# Altium integrated library WE-CBF_rev15a.intlib: 169 symbols (part 1 of 2)
Pins are listed as number, name and electrical type; pins without a type are passive.

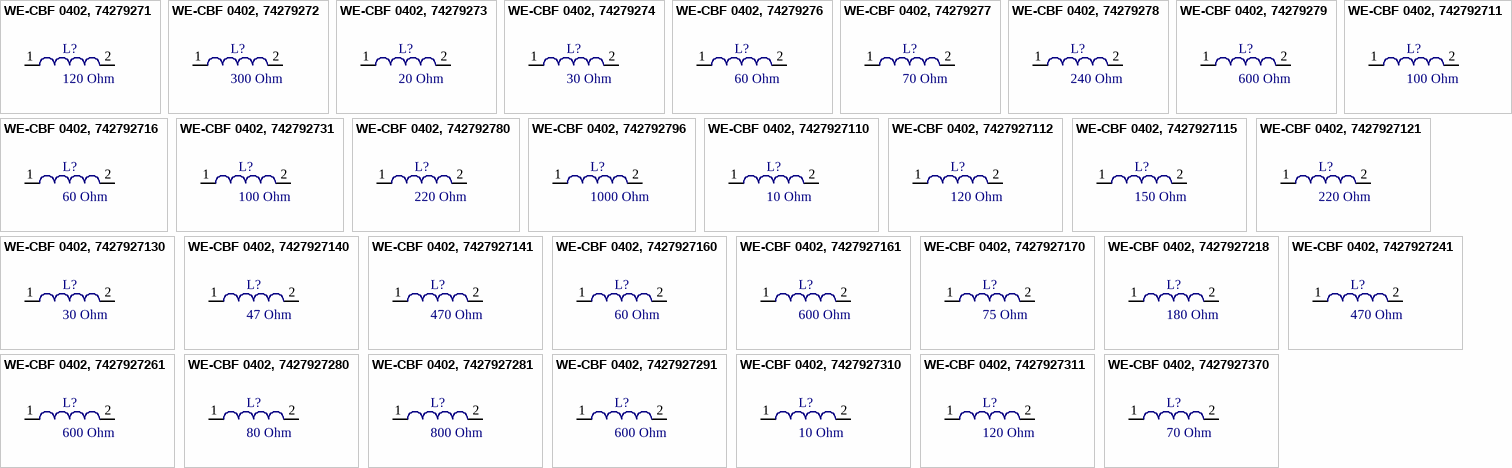
[diagram p0: symbols WE-CBF 0402, 74279271 to WE-CBF 0402, 7427927370]

## WE-CBF 0402, 74279271
designator L?, comment 120 Ohm
SMD EMI Suppression Ferrite Beads WE-CBF, Z= 120 Ohm; partNo: 74279271; Manufacturer: Würth Elektronik eiSos GmbH; Impedance: 120 Ohm; ComponentLink1Description: Manufacturer; ComponentLink1URL: http://www.we-online.de; Created by: Christin Zierenner; Created Date: May 2009; ComponentLink2Description: Datasheet; ComponentLink2URL: http://www.we-online.de/katalog/media/pdf/74279271.pdf
footprint SMD 0402 (Chip Inductor, 2-Leads, Body 1,0x0,5mm)
pins: 1, 2

## WE-CBF 0402, 74279272
designator L?, comment 300 Ohm
SMD EMI Suppression Ferrite Beads WE-CBF, Z= 300 Ohm; partNo: 74279272; Manufacturer: Würth Elektronik eiSos GmbH; Impedance: 300 Ohm; ComponentLink1Description: Manufacturer; ComponentLink1URL: http://www.we-online.de; Created by: Christin Zierenner; Created Date: May 2009; ComponentLink2Description: Datasheet; ComponentLink2URL: http://www.we-online.de/katalog/media/pdf/74279272.pdf
footprint SMD 0402 (Chip Inductor, 2-Leads, Body 1,0x0,5mm)
pins: 1, 2

## WE-CBF 0402, 74279273
designator L?, comment 20 Ohm
SMD EMI Suppression Ferrite Beads WE-CBF, Z= 20 Ohm; partNo: 74279273; Manufacturer: Würth Elektronik eiSos GmbH; Impedance: 20 Ohm; ComponentLink1Description: Manufacturer; ComponentLink1URL: http://www.we-online.de; Created by: Christin Zierenner; Created Date: May 2009; ComponentLink2Description: Datasheet; ComponentLink2URL: http://www.we-online.de/katalog/media/pdf/74279273.pdf
footprint SMD 0402 (Chip Inductor, 2-Leads, Body 1,0x0,5mm)
pins: 1, 2

## WE-CBF 0402, 74279274
designator L?, comment 30 Ohm
SMD EMI Suppression Ferrite Beads WE-CBF, Z= 30 Ohm; partNo: 74279274; Manufacturer: Würth Elektronik eiSos GmbH; Impedance: 30 Ohm; ComponentLink1Description: Manufacturer; ComponentLink1URL: http://www.we-online.de; Created by: Christin Zierenner; Created Date: May 2009; ComponentLink2Description: Datasheet; ComponentLink2URL: http://www.we-online.de/katalog/media/pdf/74279274.pdf
footprint SMD 0402 (Chip Inductor, 2-Leads, Body 1,0x0,5mm)
pins: 1, 2

## WE-CBF 0402, 74279276
designator L?, comment 60 Ohm
SMD EMI Suppression Ferrite Beads WE-CBF, Z= 60 Ohm; partNo: 74279276; Manufacturer: Würth Elektronik eiSos GmbH; Impedance: 60 Ohm; ComponentLink1Description: Manufacturer; ComponentLink1URL: http://www.we-online.de; Created by: Christin Zierenner; Created Date: May 2009; ComponentLink2Description: Datasheet; ComponentLink2URL: http://www.we-online.de/katalog/media/pdf/74279276.pdf
footprint SMD 0402 (Chip Inductor, 2-Leads, Body 1,0x0,5mm)
pins: 1, 2

## WE-CBF 0402, 74279277
designator L?, comment 70 Ohm
SMD EMI Suppression Ferrite Beads WE-CBF, Z= 70 Ohm; partNo: 74279277; Manufacturer: Würth Elektronik eiSos GmbH; Impedance: 70 Ohm; ComponentLink1Description: Manufacturer; ComponentLink1URL: http://www.we-online.de; Created by: Christin Zierenner; Created Date: May 2009; ComponentLink2Description: Datasheet; ComponentLink2URL: http://www.we-online.de/katalog/media/pdf/74279277.pdf
footprint SMD 0402 (Chip Inductor, 2-Leads, Body 1,0x0,5mm)
pins: 1, 2

## WE-CBF 0402, 74279278
designator L?, comment 240 Ohm
SMD EMI Suppression Ferrite Beads WE-CBF, Z= 240 Ohm; partNo: 74279278; Manufacturer: Würth Elektronik eiSos GmbH; Impedance: 240 Ohm; ComponentLink1Description: Manufacturer; ComponentLink1URL: http://www.we-online.de; Created by: Christin Zierenner; Created Date: May 2009; ComponentLink2Description: Datasheet; ComponentLink2URL: http://www.we-online.de/katalog/media/pdf/74279278.pdf
footprint SMD 0402 (Chip Inductor, 2-Leads, Body 1,0x0,5mm)
pins: 1, 2

## WE-CBF 0402, 74279279
designator L?, comment 600 Ohm
SMD EMI Suppression Ferrite Beads WE-CBF, Z= 600 Ohm; partNo: 74279279; Manufacturer: Würth Elektronik eiSos GmbH; Impedance: 600 Ohm; ComponentLink1Description: Manufacturer; ComponentLink1URL: http://www.we-online.de; Created by: Christin Zierenner; Created Date: May 2009; ComponentLink2Description: Datasheet; ComponentLink2URL: http://www.we-online.de/katalog/media/pdf/74279279.pdf
footprint SMD 0402 (Chip Inductor, 2-Leads, Body 1,0x0,5mm)
pins: 1, 2

## WE-CBF 0402, 742792711
designator L?, comment 100 Ohm
SMD EMI Suppression Ferrite Beads WE-CBF, Z= 100 Ohm; partNo: 742792711; Manufacturer: Würth Elektronik eiSos GmbH; Impedance: 100 Ohm; ComponentLink1Description: Manufacturer; ComponentLink1URL: http://www.we-online.de; Created by: Christin Zierenner; Created Date: June 2010; ComponentLink2Description: Datasheet; ComponentLink2URL: http://www.we-online.de/katalog/media/pdf/742792711.pdf
footprint SMD 0402 (Chip Inductor, 2-Leads, Body 1,0x0,5mm)
pins: 1, 2

## WE-CBF 0402, 742792716
designator L?, comment 60 Ohm
SMD EMI Suppression Ferrite Beads WE-CBF, Z= 60 Ohm; partNo: 742792716; Manufacturer: Würth Elektronik eiSos GmbH; Impedance: 60 Ohm; ComponentLink1Description: Manufacturer; ComponentLink1URL: http://www.we-online.de; Created by: Christin Zierenner; Created Date: June 2010; ComponentLink2Description: Datasheet; ComponentLink2URL: http://www.we-online.de/katalog/media/pdf/742792716.pdf
footprint SMD 0402 (Chip Inductor, 2-Leads, Body 1,0x0,5mm)
pins: 1, 2

## WE-CBF 0402, 742792731
designator L?, comment 100 Ohm
SMD EMI Suppression Ferrite Beads WE-CBF, Z= 100 Ohm; partNo: 742792731; Manufacturer: Würth Elektronik eiSos GmbH; Impedance: 100 Ohm; ComponentLink1Description: Manufacturer; ComponentLink1URL: http://www.we-online.de; Created by: Christin Zierenner; Created Date: June 2010; ComponentLink2Description: Datasheet; ComponentLink2URL: http://www.we-online.de/katalog/media/pdf/742792731.pdf
footprint SMD 0402 (Chip Inductor, 2-Leads, Body 1,0x0,5mm)
pins: 1, 2

## WE-CBF 0402, 742792780
designator L?, comment 220 Ohm
SMD EMI Suppression Ferrite Beads WE-CBF, Z= 220 Ohm; partNo: 742792780; Manufacturer: Würth Elektronik eiSos GmbH; Impedance: 220 Ohm; ComponentLink1Description: Manufacturer; ComponentLink1URL: http://www.we-online.de; Created by: Christin Zierenner; Created Date: May 2009; ComponentLink2Description: Datasheet; ComponentLink2URL: http://www.we-online.de/katalog/media/pdf/742792780.pdf
footprint SMD 0402 (Chip Inductor, 2-Leads, Body 1,0x0,5mm)
pins: 1, 2

## WE-CBF 0402, 742792796
designator L?, comment 1000 Ohm
SMD EMI Suppression Ferrite Beads WE-CBF, Z= 1000 Ohm; partNo: 742792796; Manufacturer: Würth Elektronik eiSos GmbH; Impedance: 1000 Ohm; ComponentLink1Description: Manufacturer; ComponentLink1URL: http://www.we-online.de; Created by: Christin Zierenner; Created Date: May 2009; ComponentLink2Description: Datasheet; ComponentLink2URL: http://www.we-online.de/katalog/media/pdf/742792796.pdf
footprint SMD 0402 (Chip Inductor, 2-Leads, Body 1,0x0,5mm)
pins: 1, 2

## WE-CBF 0402, 7427927110
designator L?, comment 10 Ohm
SMD EMI Suppression Ferrite Beads WE-CBF, Z= 10 Ohm; partNo: 7427927110; Manufacturer: Würth Elektronik eiSos GmbH; Impedance: 10 Ohm; ComponentLink1Description: Manufacturer; ComponentLink1URL: http://www.we-online.de; Created by: Christin Zierenner; Created Date: June 2010; ComponentLink2Description: Datasheet; ComponentLink2URL: http://www.we-online.de/katalog/media/pdf/7427927110.pdf
footprint SMD 0402 (Chip Inductor, 2-Leads, Body 1,0x0,5mm)
pins: 1, 2

## WE-CBF 0402, 7427927112
designator L?, comment 120 Ohm
SMD EMI Suppression Ferrite Beads WE-CBF, Z= 120 Ohm; partNo: 7427927112; Manufacturer: Würth Elektronik eiSos GmbH; Impedance: 120 Ohm; ComponentLink1Description: Manufacturer; ComponentLink1URL: http://www.we-online.de; Created by: Christin Zierenner; Created Date: June 2010; ComponentLink2Description: Datasheet; ComponentLink2URL: http://www.we-online.de/katalog/media/pdf/7427927112.pdf
footprint SMD 0402 (Chip Inductor, 2-Leads, Body 1,0x0,5mm)
pins: 1, 2

## WE-CBF 0402, 7427927115
designator L?, comment 150 Ohm
SMD EMI Suppression Ferrite Beads WE-CBF, Z= 150 Ohm; partNo: 7427927115; Manufacturer: Würth Elektronik eiSos GmbH; Impedance: 150 Ohm; ComponentLink1Description: Manufacturer; ComponentLink1URL: http://www.we-online.de; Created by: Christin Zierenner; Created Date: June 2010; ComponentLink2Description: Datasheet; ComponentLink2URL: http://www.we-online.de/katalog/media/pdf/7427927115.pdf
footprint SMD 0402 (Chip Inductor, 2-Leads, Body 1,0x0,5mm)
pins: 1, 2

## WE-CBF 0402, 7427927121
designator L?, comment 220 Ohm
SMD EMI Suppression Ferrite Beads WE-CBF, Z= 220 Ohm; partNo: 7427927121; Manufacturer: Würth Elektronik eiSos GmbH; Impedance: 220 Ohm; ComponentLink1Description: Manufacturer; ComponentLink1URL: http://www.we-online.de; Created by: Christin Zierenner; Created Date: June 2010; ComponentLink2Description: Datasheet; ComponentLink2URL: http://www.we-online.de/katalog/media/pdf/7427927121.pdf
footprint SMD 0402 (Chip Inductor, 2-Leads, Body 1,0x0,5mm)
pins: 1, 2

## WE-CBF 0402, 7427927130
designator L?, comment 30 Ohm
SMD EMI Suppression Ferrite Beads WE-CBF, Z= 30 Ohm; partNo: 7427927130; Manufacturer: Würth Elektronik eiSos GmbH; Impedance: 30 Ohm; ComponentLink1Description: Manufacturer; ComponentLink1URL: http://www.we-online.de; Created by: Christin Zierenner; Created Date: June 2010; ComponentLink2Description: Datasheet; ComponentLink2URL: http://www.we-online.de/katalog/media/pdf/7427927130.pdf
footprint SMD 0402 (Chip Inductor, 2-Leads, Body 1,0x0,5mm)
pins: 1, 2

## WE-CBF 0402, 7427927140
designator L?, comment 47 Ohm
SMD EMI Suppression Ferrite Beads WE-CBF, Z= 47 Ohm; partNo: 7427927140; Manufacturer: Würth Elektronik eiSos GmbH; Impedance: 47 Ohm; ComponentLink1Description: Manufacturer; ComponentLink1URL: http://www.we-online.de; Created by: Christin Zierenner; Created Date: June 2010; ComponentLink2Description: Datasheet; ComponentLink2URL: http://www.we-online.de/katalog/media/pdf/7427927140.pdf
footprint SMD 0402 (Chip Inductor, 2-Leads, Body 1,0x0,5mm)
pins: 1, 2

## WE-CBF 0402, 7427927141
designator L?, comment 470 Ohm
SMD EMI Suppression Ferrite Beads WE-CBF, Z= 470 Ohm; partNo: 7427927141; Manufacturer: Würth Elektronik eiSos GmbH; Impedance: 470 Ohm; ComponentLink1Description: Manufacturer; ComponentLink1URL: http://www.we-online.de; Created by: Christin Zierenner; Created Date: June 2010; ComponentLink2Description: Datasheet; ComponentLink2URL: http://www.we-online.de/katalog/media/pdf/7427927141.pdf
footprint SMD 0402 (Chip Inductor, 2-Leads, Body 1,0x0,5mm)
pins: 1, 2

## WE-CBF 0402, 7427927160
designator L?, comment 60 Ohm
SMD EMI Suppression Ferrite Beads WE-CBF, Z= 60 Ohm; partNo: 7427927160; Manufacturer: Würth Elektronik eiSos GmbH; Impedance: 60 Ohm; ComponentLink1Description: Manufacturer; ComponentLink1URL: http://www.we-online.de; Created by: Christin Zierenner; Created Date: June 2010; ComponentLink2Description: Datasheet; ComponentLink2URL: http://www.we-online.de/katalog/media/pdf/7427927160.pdf
footprint SMD 0402 (Chip Inductor, 2-Leads, Body 1,0x0,5mm)
pins: 1, 2

## WE-CBF 0402, 7427927161
designator L?, comment 600 Ohm
SMD EMI Suppression Ferrite Beads WE-CBF, Z= 600 Ohm; partNo: 7427927161; Manufacturer: Würth Elektronik eiSos GmbH; Impedance: 600 Ohm; ComponentLink1Description: Manufacturer; ComponentLink1URL: http://www.we-online.de; Created by: Christin Zierenner; Created Date: June 2010; ComponentLink2Description: Datasheet; ComponentLink2URL: http://www.we-online.de/katalog/media/pdf/7427927161.pdf
footprint SMD 0402 (Chip Inductor, 2-Leads, Body 1,0x0,5mm)
pins: 1, 2

## WE-CBF 0402, 7427927170
designator L?, comment 75 Ohm
SMD EMI Suppression Ferrite Beads WE-CBF, Z= 75 Ohm; partNo: 7427927170; Manufacturer: Würth Elektronik eiSos GmbH; Impedance: 75 Ohm; ComponentLink1Description: Manufacturer; ComponentLink1URL: http://www.we-online.de; Created by: Christin Zierenner; Created Date: June 2010; ComponentLink2Description: Datasheet; ComponentLink2URL: http://www.we-online.de/katalog/media/pdf/7427927170.pdf
footprint SMD 0402 (Chip Inductor, 2-Leads, Body 1,0x0,5mm)
pins: 1, 2

## WE-CBF 0402, 7427927218
designator L?, comment 180 Ohm
SMD EMI Suppression Ferrite Beads WE-CBF, Z= 180 Ohm; partNo: 7427927218; Manufacturer: Würth Elektronik eiSos GmbH; Impedance: 180 Ohm; ComponentLink1Description: Manufacturer; ComponentLink1URL: http://www.we-online.de; Created by: Christin Zierenner; Created Date: June 2010; ComponentLink2Description: Datasheet; ComponentLink2URL: http://www.we-online.de/katalog/media/pdf/7427927218.pdf
footprint SMD 0402 (Chip Inductor, 2-Leads, Body 1,0x0,5mm)
pins: 1, 2

## WE-CBF 0402, 7427927241
designator L?, comment 470 Ohm
SMD EMI Suppression Ferrite Beads WE-CBF, Z= 470 Ohm; partNo: 7427927241; Manufacturer: Würth Elektronik eiSos GmbH; Impedance: 470 Ohm; ComponentLink1Description: Manufacturer; ComponentLink1URL: http://www.we-online.de; Created by: Christin Zierenner; Created Date: June 2010; ComponentLink2Description: Datasheet; ComponentLink2URL: http://www.we-online.de/katalog/media/pdf/7427927241.pdf
footprint SMD 0402 (Chip Inductor, 2-Leads, Body 1,0x0,5mm)
pins: 1, 2

## WE-CBF 0402, 7427927261
designator L?, comment 600 Ohm
SMD EMI Suppression Ferrite Beads WE-CBF, Z= 600 Ohm; partNo: 7427927261; Manufacturer: Würth Elektronik eiSos GmbH; Impedance: 600 Ohm; ComponentLink1Description: Manufacturer; ComponentLink1URL: http://www.we-online.de; Created by: Christin Zierenner; Created Date: June 2010; ComponentLink2Description: Datasheet; ComponentLink2URL: http://www.we-online.de/katalog/media/pdf/7427927261.pdf
footprint SMD 0402 (Chip Inductor, 2-Leads, Body 1,0x0,5mm)
pins: 1, 2

## WE-CBF 0402, 7427927280
designator L?, comment 80 Ohm
SMD EMI Suppression Ferrite Beads WE-CBF, Z= 80 Ohm; partNo: 7427927280; Manufacturer: Würth Elektronik eiSos GmbH; Impedance: 80 Ohm; ComponentLink1Description: Manufacturer; ComponentLink1URL: http://www.we-online.de; Created by: Christin Zierenner; Created Date: June 2010; ComponentLink2Description: Datasheet; ComponentLink2URL: http://www.we-online.de/katalog/media/pdf/7427927280.pdf
footprint SMD 0402 (Chip Inductor, 2-Leads, Body 1,0x0,5mm)
pins: 1, 2

## WE-CBF 0402, 7427927281
designator L?, comment 800 Ohm
SMD EMI Suppression Ferrite Beads WE-CBF, Z= 800 Ohm; partNo: 7427927281; Manufacturer: Würth Elektronik eiSos GmbH; Impedance: 800 Ohm; ComponentLink1Description: Manufacturer; ComponentLink1URL: http://www.we-online.de; Created by: Christin Zierenner; Created Date: June 2010; ComponentLink2Description: Datasheet; ComponentLink2URL: http://www.we-online.de/katalog/media/pdf/7427927281.pdf
footprint SMD 0402 (Chip Inductor, 2-Leads, Body 1,0x0,5mm)
pins: 1, 2

## WE-CBF 0402, 7427927291
designator L?, comment 600 Ohm
SMD EMI Suppression Ferrite Beads WE-CBF, Z= 600 Ohm; partNo: 7427927291; Manufacturer: Würth Elektronik eiSos GmbH; Impedance: 600 Ohm; ComponentLink1Description: Manufacturer; ComponentLink1URL: http://www.we-online.de; Created by: Christin Zierenner; Created Date: June 2010; ComponentLink2Description: Datasheet; ComponentLink2URL: http://www.we-online.de/katalog/media/pdf/7427927291.pdf
footprint SMD 0402 (Chip Inductor, 2-Leads, Body 1,0x0,5mm)
pins: 1, 2

## WE-CBF 0402, 7427927310
designator L?, comment 10 Ohm
SMD EMI Suppression Ferrite Beads WE-CBF, Z= 10 Ohm; partNo: 7427927310; Manufacturer: Würth Elektronik eiSos GmbH; Impedance: 10 Ohm; ComponentLink1Description: Manufacturer; ComponentLink1URL: http://www.we-online.de; Created by: Christin Zierenner; Created Date: June 2010; ComponentLink2Description: Datasheet; ComponentLink2URL: http://www.we-online.de/katalog/media/pdf/7427927310.pdf
footprint SMD 0402 (Chip Inductor, 2-Leads, Body 1,0x0,5mm)
pins: 1, 2

## WE-CBF 0402, 7427927311
designator L?, comment 120 Ohm
SMD EMI Suppression Ferrite Beads WE-CBF, Z= 120 Ohm; partNo: 7427927311; Manufacturer: Würth Elektronik eiSos GmbH; Impedance: 120 Ohm; ComponentLink1Description: Manufacturer; ComponentLink1URL: http://www.we-online.de; Created by: Christin Zierenner; Created Date: June 2010; ComponentLink2Description: Datasheet; ComponentLink2URL: http://www.we-online.de/katalog/media/pdf/74279273120.pdf
footprint SMD 0402 (Chip Inductor, 2-Leads, Body 1,0x0,5mm)
pins: 1, 2

## WE-CBF 0402, 7427927370
designator L?, comment 70 Ohm
SMD EMI Suppression Ferrite Beads WE-CBF, Z= 70 Ohm; partNo: 7427927370; Manufacturer: Würth Elektronik eiSos GmbH; Impedance: 70 Ohm; ComponentLink1Description: Manufacturer; ComponentLink1URL: http://www.we-online.de; Created by: Christin Zierenner; Created Date: June 2010; ComponentLink2Description: Datasheet; ComponentLink2URL: http://www.we-online.de/katalog/media/pdf/7427927370.pdf
footprint SMD 0402 (Chip Inductor, 2-Leads, Body 1,0x0,5mm)
pins: 1, 2


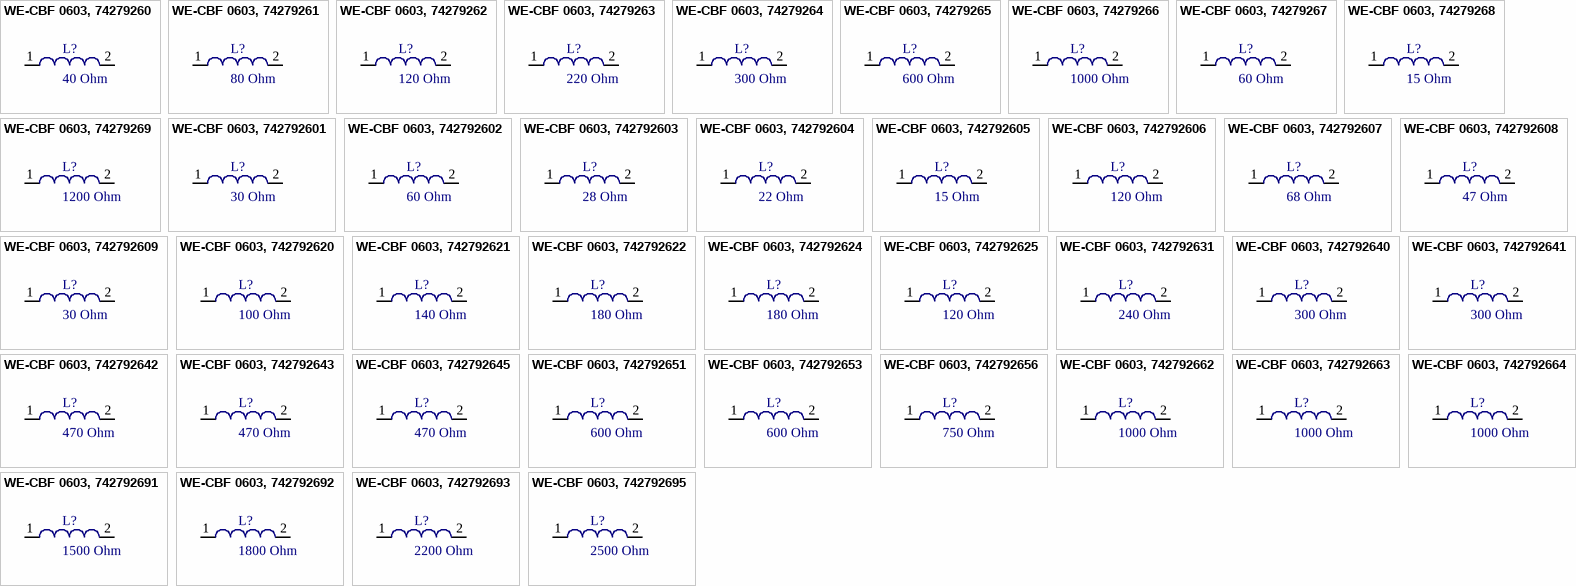
[diagram p1: symbols WE-CBF 0603, 74279260 to WE-CBF 0603, 742792695]

## WE-CBF 0603, 74279260
designator L?, comment 40 Ohm
SMD EMI Suppression Ferrite Beads WE-CBF, Z= 40 Ohm; partNo: 74279260; Manufacturer: Würth Elektronik eiSos GmbH; ComponentLink1Description: Manufacturer; ComponentLink1URL: http://www.we-online.de; Created by: Christin Zierenner; Created Date: May 2009; Impedance: 40 Ohm; ComponentLink2Description: Datasheet; ComponentLink2URL: http://www.we-online.de/katalog/media/pdf/74279260.pdf
footprint SMD 0603 (Chip Inductor, 2-Leads, Body 1,6x0,8mm)
pins: 1, 2

## WE-CBF 0603, 74279261
designator L?, comment 80 Ohm
SMD EMI Suppression Ferrite Beads WE-CBF, Z= 80 Ohm; partNo: 74279261; Manufacturer: Würth Elektronik eiSos GmbH; Impedance: 80 Ohm; ComponentLink1Description: Manufacturer; ComponentLink1URL: http://www.we-online.de; Created by: Christin Zierenner; Created Date: May 2009; ComponentLink2Description: Datasheet; ComponentLink2URL: http://www.we-online.de/katalog/media/pdf/74279261.pdf
footprint SMD 0603 (Chip Inductor, 2-Leads, Body 1,6x0,8mm)
pins: 1, 2

## WE-CBF 0603, 74279262
designator L?, comment 120 Ohm
SMD EMI Suppression Ferrite Beads WE-CBF, Z= 120 Ohm; partNo: 74279262; Manufacturer: Würth Elektronik eiSos GmbH; Impedance: 120 Ohm; ComponentLink1Description: Manufacturer; ComponentLink1URL: http://www.we-online.de; Created by: Christin Zierenner; Created Date: May 2009; ComponentLink2Description: Datasheet; ComponentLink2URL: http://www.we-online.de/katalog/media/pdf/74279262.pdf
footprint SMD 0603 (Chip Inductor, 2-Leads, Body 1,6x0,8mm)
pins: 1, 2

## WE-CBF 0603, 74279263
designator L?, comment 220 Ohm
SMD EMI Suppression Ferrite Beads WE-CBF, Z= 220 Ohm; partNo: 74279263; Manufacturer: Würth Elektronik eiSos GmbH; Impedance: 220 Ohm; ComponentLink1Description: Manufacturer; ComponentLink1URL: http://www.we-online.de; Created by: Christin Zierenner; Created Date: May 2009; ComponentLink2Description: Datasheet; ComponentLink2URL: http://www.we-online.de/katalog/media/pdf/74279263.pdf
footprint SMD 0603 (Chip Inductor, 2-Leads, Body 1,6x0,8mm)
pins: 1, 2

## WE-CBF 0603, 74279264
designator L?, comment 300 Ohm
SMD EMI Suppression Ferrite Beads WE-CBF, Z= 300 Ohm; partNo: 74279264; Manufacturer: Würth Elektronik eiSos GmbH; Impedance: 300 Ohm; ComponentLink1Description: Manufacturer; ComponentLink1URL: http://www.we-online.de; Created by: Christin Zierenner; Created Date: May 2009; ComponentLink2Description: Datasheet; ComponentLink2URL: http://www.we-online.de/katalog/media/pdf/74279264.pdf
footprint SMD 0603 (Chip Inductor, 2-Leads, Body 1,6x0,8mm)
pins: 1, 2

## WE-CBF 0603, 74279265
designator L?, comment 600 Ohm
SMD EMI Suppression Ferrite Beads WE-CBF, Z= 600 Ohm; partNo: 74279265; Manufacturer: Würth Elektronik eiSos GmbH; Impedance: 600 Ohm; ComponentLink1Description: Manufacturer; ComponentLink1URL: http://www.we-online.de; Created by: Christin Zierenner; Created Date: May 2009; ComponentLink2Description: Datasheet; ComponentLink2URL: http://www.we-online.de/katalog/media/pdf/74279265.pdf
footprint SMD 0603 (Chip Inductor, 2-Leads, Body 1,6x0,8mm)
pins: 1, 2

## WE-CBF 0603, 74279266
designator L?, comment 1000 Ohm
SMD EMI Suppression Ferrite Beads WE-CBF, Z= 1000 Ohm; partNo: 74279266; Manufacturer: Würth Elektronik eiSos GmbH; Impedance: 1000 Ohm; ComponentLink1Description: Manufacturer; ComponentLink1URL: http://www.we-online.de; Created by: Christin Zierenner; Created Date: May 2009; ComponentLink2Description: Datasheet; ComponentLink2URL: http://www.we-online.de/katalog/media/pdf/74279266.pdf
footprint SMD 0603 (Chip Inductor, 2-Leads, Body 1,6x0,8mm)
pins: 1, 2

## WE-CBF 0603, 74279267
designator L?, comment 60 Ohm
SMD EMI Suppression Ferrite Beads WE-CBF, Z= 60 Ohm; partNo: 74279267; Manufacturer: Würth Elektronik eiSos GmbH; Impedance: 60 Ohm; ComponentLink1Description: Manufacturer; ComponentLink1URL: http://www.we-online.de; Created by: Christin Zierenner; Created Date: May 2009; ComponentLink2Description: Datasheet; ComponentLink2URL: http://www.we-online.de/katalog/media/pdf/74279267.pdf
footprint SMD 0603 (Chip Inductor, 2-Leads, Body 1,6x0,8mm)
pins: 1, 2

## WE-CBF 0603, 74279268
designator L?, comment 15 Ohm
SMD EMI Suppression Ferrite Beads WE-CBF, Z= 15 Ohm; partNo: 74279268; Manufacturer: Würth Elektronik eiSos GmbH; Impedance: 15 Ohm; ComponentLink1Description: Manufacturer; ComponentLink1URL: http://www.we-online.de; Created by: Christin Zierenner; Created Date: May 2009; ComponentLink2Description: Datasheet; ComponentLink2URL: http://www.we-online.de/katalog/media/pdf/74279268.pdf
footprint SMD 0603 (Chip Inductor, 2-Leads, Body 1,6x0,8mm)
pins: 1, 2

## WE-CBF 0603, 74279269
designator L?, comment 1200 Ohm
SMD EMI Suppression Ferrite Beads WE-CBF, Z= 1200 Ohm; partNo: 74279269; Manufacturer: Würth Elektronik eiSos GmbH; Impedance: 1200 Ohm; ComponentLink1Description: Manufacturer; ComponentLink1URL: http://www.we-online.de; Created by: Christin Zierenner; Created Date: May 2009; ComponentLink2Description: Datasheet; ComponentLink2URL: http://www.we-online.de/katalog/media/pdf/74279269.pdf
footprint SMD 0603 (Chip Inductor, 2-Leads, Body 1,6x0,8mm)
pins: 1, 2

## WE-CBF 0603, 742792601
designator L?, comment 30 Ohm
SMD EMI Suppression Ferrite Beads WE-CBF, Z= 30 Ohm; partNo: 742792601; Manufacturer: Würth Elektronik eiSos GmbH; Impedance: 30 Ohm; ComponentLink1Description: Manufacturer; ComponentLink1URL: http://www.we-online.de; Created by: Christin Zierenner; Created Date: May 2009; ComponentLink2Description: Datasheet; ComponentLink2URL: http://www.we-online.de/katalog/media/pdf/742792601.pdf
footprint SMD 0603 (Chip Inductor, 2-Leads, Body 1,6x0,8mm)
pins: 1, 2

## WE-CBF 0603, 742792602
designator L?, comment 60 Ohm
SMD EMI Suppression Ferrite Beads WE-CBF, Z= 60 Ohm; partNo: 742792602; Manufacturer: Würth Elektronik eiSos GmbH; Impedance: 60 Ohm; ComponentLink1Description: Manufacturer; ComponentLink1URL: http://www.we-online.de; Created by: Christin Zierenner; Created Date: May 2009; ComponentLink2Description: Datasheet; ComponentLink2URL: http://www.we-online.de/katalog/media/pdf/742792602.pdf
footprint SMD 0603 (Chip Inductor, 2-Leads, Body 1,6x0,8mm)
pins: 1, 2

## WE-CBF 0603, 742792603
designator L?, comment 28 Ohm
SMD EMI Suppression Ferrite Beads WE-CBF, Z= 28 Ohm; partNo: 742792603; Manufacturer: Würth Elektronik eiSos GmbH; Impedance: 28 Ohm; ComponentLink1Description: Manufacturer; ComponentLink1URL: http://www.we-online.de; Created by: Christin Zierenner; Created Date: May 2009; ComponentLink2Description: Datasheet; ComponentLink2URL: http://www.we-online.de/katalog/media/pdf/742792603.pdf
footprint SMD 0603 (Chip Inductor, 2-Leads, Body 1,6x0,8mm)
pins: 1, 2

## WE-CBF 0603, 742792604
designator L?, comment 22 Ohm
SMD EMI Suppression Ferrite Beads WE-CBF, Z= 22 Ohm; partNo: 742792604; Manufacturer: Würth Elektronik eiSos GmbH; Impedance: 22 Ohm; ComponentLink1Description: Manufacturer; ComponentLink1URL: http://www.we-online.de; Created by: Christin Zierenner; Created Date: May 2009; ComponentLink2Description: Datasheet; ComponentLink2URL: http://www.we-online.de/katalog/media/pdf/742792604.pdf
footprint SMD 0603 (Chip Inductor, 2-Leads, Body 1,6x0,8mm)
pins: 1, 2

## WE-CBF 0603, 742792605
designator L?, comment 15 Ohm
SMD EMI Suppression Ferrite Beads WE-CBF, Z= 33 Ohm; partNo: 742792605; Manufacturer: Würth Elektronik eiSos GmbH; Impedance: 15 Ohm; ComponentLink1Description: Manufacturer; ComponentLink1URL: http://www.we-online.de; Created by: Christin Zierenner; Created Date: May 2009; ComponentLink2Description: Datasheet; ComponentLink2URL: http://www.we-online.de/katalog/media/pdf/742792605.pdf
footprint SMD 0603 (Chip Inductor, 2-Leads, Body 1,6x0,8mm)
pins: 1, 2

## WE-CBF 0603, 742792606
designator L?, comment 120 Ohm
SMD EMI Suppression Ferrite Beads WE-CBF, Z= 120 Ohm; partNo: 742792606; Manufacturer: Würth Elektronik eiSos GmbH; Impedance: 120 Ohm; ComponentLink1Description: Manufacturer; ComponentLink1URL: http://www.we-online.de; Created by: Christin Zierenner; Created Date: May 2009; ComponentLink2Description: Datasheet; ComponentLink2URL: http://www.we-online.de/katalog/media/pdf/742792606.pdf
footprint SMD 0603 (Chip Inductor, 2-Leads, Body 1,6x0,8mm)
pins: 1, 2

## WE-CBF 0603, 742792607
designator L?, comment 68 Ohm
SMD EMI Suppression Ferrite Beads WE-CBF, Z= 68 Ohm; partNo: 742792607; Manufacturer: Würth Elektronik eiSos GmbH; Impedance: 68 Ohm; ComponentLink1Description: Manufacturer; ComponentLink1URL: http://www.we-online.de; Created by: Christin Zierenner; Created Date: May 2009; ComponentLink2Description: Datasheet; ComponentLink2URL: http://www.we-online.de/katalog/media/pdf/742792607.pdf
footprint SMD 0603 (Chip Inductor, 2-Leads, Body 1,6x0,8mm, IPC Medium Density)
pins: 1, 2

## WE-CBF 0603, 742792608
designator L?, comment 47 Ohm
SMD EMI Suppression Ferrite Beads WE-CBF, Z= 47 Ohm; partNo: 742792608; Manufacturer: Würth Elektronik eiSos GmbH; Impedance: 47 Ohm; ComponentLink1Description: Manufacturer; ComponentLink1URL: http://www.we-online.de; Created by: Christin Zierenner; Created Date: May 2009; ComponentLink2Description: Datasheet; ComponentLink2URL: http://www.we-online.de/katalog/media/pdf/742792608.pdf
footprint SMD 0603 (Chip Inductor, 2-Leads, Body 1,6x0,8mm, IPC Medium Density)
pins: 1, 2

## WE-CBF 0603, 742792609
designator L?, comment 30 Ohm
SMD EMI Suppression Ferrite Beads WE-CBF, Z= 30 Ohm; partNo: 742792609; Manufacturer: Würth Elektronik eiSos GmbH; Impedance: 30 Ohm; ComponentLink1Description: Manufacturer; ComponentLink1URL: http://www.we-online.de; Created by: Christin Zierenner; Created Date: May 2009; ComponentLink2Description: Datasheet; ComponentLink2URL: http://www.we-online.de/katalog/media/pdf/742792609.pdf
footprint SMD 0603 (Chip Inductor, 2-Leads, Body 1,6x0,8mm, IPC Medium Density)
pins: 1, 2

## WE-CBF 0603, 742792620
designator L?, comment 100 Ohm
SMD EMI Suppression Ferrite Beads WE-CBF, Z= 100 Ohm; partNo: 742792620; Manufacturer: Würth Elektronik eiSos GmbH; Impedance: 100 Ohm; ComponentLink1Description: Manufacturer; ComponentLink1URL: http://www.we-online.de; Created by: Christin Zierenner; Created Date: May 2009; ComponentLink2Description: Datasheet; ComponentLink2URL: http://www.we-online.de/katalog/media/pdf/742792620.pdf
footprint SMD 0603 (Chip Inductor, 2-Leads, Body 1,6x0,8mm)
pins: 1, 2

## WE-CBF 0603, 742792621
designator L?, comment 140 Ohm
SMD EMI Suppression Ferrite Beads WE-CBF, Z= 140 Ohm; partNo: 742792621; Manufacturer: Würth Elektronik eiSos GmbH; Impedance: 140 Ohm; ComponentLink1Description: Manufacturer; ComponentLink1URL: http://www.we-online.de; Created by: Christin Zierenner; Created Date: May 2009; ComponentLink2Description: Datasheet; ComponentLink2URL: http://www.we-online.de/katalog/media/pdf/742792621.pdf
footprint SMD 0603 (Chip Inductor, 2-Leads, Body 1,6x0,8mm)
pins: 1, 2

## WE-CBF 0603, 742792622
designator L?, comment 180 Ohm
SMD EMI Suppression Ferrite Beads WE-CBF, Z= 180 Ohm; partNo: 742792622; Manufacturer: Würth Elektronik eiSos GmbH; Impedance: 180 Ohm; ComponentLink1Description: Manufacturer; ComponentLink1URL: http://www.we-online.de; Created by: Christin Zierenner; Created Date: May 2009; ComponentLink2Description: Datasheet; ComponentLink2URL: http://www.we-online.de/katalog/media/pdf/74279222.pdf
footprint SMD 0603 (Chip Inductor, 2-Leads, Body 1,6x0,8mm)
pins: 1, 2

## WE-CBF 0603, 742792624
designator L?, comment 180 Ohm
SMD EMI Suppression Ferrite Beads WE-CBF, Z= 180 Ohm; partNo: 742792624; Manufacturer: Würth Elektronik eiSos GmbH; Impedance: 180 Ohm; ComponentLink1Description: Manufacturer; ComponentLink1URL: http://www.we-online.de; Created by: Christin Zierenner; Created Date: May 2009; ComponentLink2Description: Datasheet; ComponentLink2URL: http://www.we-online.de/katalog/media/pdf/742792624.pdf
footprint SMD 0603 (Chip Inductor, 2-Leads, Body 1,6x0,8mm)
pins: 1, 2

## WE-CBF 0603, 742792625
designator L?, comment 120 Ohm
SMD EMI Suppression Ferrite Beads WE-CBF, Z= 120 Ohm; partNo: 742792625; Manufacturer: Würth Elektronik eiSos GmbH; ComponentLink1Description: Manufacturer; ComponentLink1URL: http://www.we-online.de; Created by: Christin Zierenner; Created Date: June 2010; Impedance: 120 Ohm; ComponentLink2Description: Datasheet; ComponentLink2URL: http://www.we-online.de/katalog/media/pdf/742792625.pdf
footprint SMD 0603 (Chip Inductor, 2-Leads, Body 1,6x0,8mm)
pins: 1, 2

## WE-CBF 0603, 742792631
designator L?, comment 240 Ohm
SMD EMI Suppression Ferrite Beads WE-CBF, Z= 240 Ohm; partNo: 742792631; Manufacturer: Würth Elektronik eiSos GmbH; Impedance: 240 Ohm; ComponentLink1Description: Manufacturer; ComponentLink1URL: http://www.we-online.de; Created by: Christin Zierenner; Created Date: May 2009; ComponentLink2Description: Datasheet; ComponentLink2URL: http://www.we-online.de/katalog/media/pdf/742792631.pdf
footprint SMD 0603 (Chip Inductor, 2-Leads, Body 1,6x0,8mm)
pins: 1, 2

## WE-CBF 0603, 742792640
designator L?, comment 300 Ohm
SMD EMI Suppression Ferrite Beads WE-CBF, Z= 300 Ohm; partNo: 742792640; Manufacturer: Würth Elektronik eiSos GmbH; Impedance: 300 Ohm; ComponentLink1Description: Manufacturer; ComponentLink1URL: http://www.we-online.de; Created by: Christin Zierenner; Created Date: May 2009; ComponentLink2Description: Datasheet; ComponentLink2URL: http://www.we-online.de/katalog/media/pdf/742792640.pdf
footprint SMD 0603 (Chip Inductor, 2-Leads, Body 1,6x0,8mm)
pins: 1, 2

## WE-CBF 0603, 742792641
designator L?, comment 300 Ohm
SMD EMI Suppression Ferrite Beads WE-CBF, Z= 300 Ohm; partNo: 742792641; Manufacturer: Würth Elektronik eiSos GmbH; Impedance: 300 Ohm; ComponentLink1Description: Manufacturer; ComponentLink1URL: http://www.we-online.de; Created by: Christin Zierenner; Created Date: May 2009; ComponentLink2Description: Datasheet; ComponentLink2URL: http://www.we-online.de/katalog/media/pdf/742792641.pdf
footprint SMD 0603 (Chip Inductor, 2-Leads, Body 1,6x0,8mm)
pins: 1, 2

## WE-CBF 0603, 742792642
designator L?, comment 470 Ohm
SMD EMI Suppression Ferrite Beads WE-CBF, Z= 470 Ohm; partNo: 742792642; Manufacturer: Würth Elektronik eiSos GmbH; Impedance: 470 Ohm; ComponentLink1Description: Manufacturer; ComponentLink1URL: http://www.we-online.de; Created by: Christin Zierenner; Created Date: May 2009; ComponentLink2Description: Datasheet; ComponentLink2URL: http://www.we-online.de/katalog/media/pdf/742792642.pdf
footprint SMD 0603 (Chip Inductor, 2-Leads, Body 1,6x0,8mm)
pins: 1, 2

## WE-CBF 0603, 742792643
designator L?, comment 470 Ohm
SMD EMI Suppression Ferrite Beads WE-CBF, Z= 470 Ohm; partNo: 742792643; Manufacturer: Würth Elektronik eiSos GmbH; Impedance: 470 Ohm; ComponentLink1Description: Manufacturer; ComponentLink1URL: http://www.we-online.de; Created by: Christin Zierenner; Created Date: May 2009; ComponentLink2Description: Datasheet; ComponentLink2URL: http://www.we-online.de/katalog/media/pdf/742792643.pdf
footprint SMD 0603 (Chip Inductor, 2-Leads, Body 1,6x0,8mm)
pins: 1, 2

## WE-CBF 0603, 742792645
designator L?, comment 470 Ohm
SMD EMI Suppression Ferrite Beads WE-CBF, Z= 470 Ohm; partNo: 742792645; Manufacturer: Würth Elektronik eiSos GmbH; ComponentLink1Description: Manufacturer; ComponentLink1URL: http://www.we-online.de; Created by: Christin Zierenner; Created Date: June 2010; Impedance: 470 Ohm; ComponentLink2Description: Datasheet; ComponentLink2URL: http://www.we-online.de/katalog/media/pdf/742792645.pdf
footprint SMD 0603 (Chip Inductor, 2-Leads, Body 1,6x0,8mm)
pins: 1, 2

## WE-CBF 0603, 742792651
designator L?, comment 600 Ohm
SMD EMI Suppression Ferrite Beads WE-CBF, Z= 600 Ohm; partNo: 742792651; Manufacturer: Würth Elektronik eiSos GmbH; Impedance: 600 Ohm; ComponentLink1Description: Manufacturer; ComponentLink1URL: http://www.we-online.de; Created by: Christin Zierenner; Created Date: May 2009; ComponentLink2Description: Datasheet; ComponentLink2URL: http://www.we-online.de/katalog/media/pdf/742792651.pdf
footprint SMD 0603 (Chip Inductor, 2-Leads, Body 1,6x0,8mm)
pins: 1, 2

## WE-CBF 0603, 742792653
designator L?, comment 600 Ohm
SMD EMI Suppression Ferrite Beads WE-CBF, Z= 600 Ohm; partNo: 742792653; Manufacturer: Würth Elektronik eiSos GmbH; Impedance: 600 Ohm; ComponentLink1Description: Manufacturer; ComponentLink1URL: http://www.we-online.de; Created by: Christin Zierenner; Created Date: May 2009; ComponentLink2Description: Datasheet; ComponentLink2URL: http://www.we-online.de/katalog/media/pdf/742792653.pdf
footprint SMD 0603 (Chip Inductor, 2-Leads, Body 1,6x0,8mm)
pins: 1, 2

## WE-CBF 0603, 742792656
designator L?, comment 750 Ohm
SMD EMI Suppression Ferrite Beads WE-CBF, Z= 750 Ohm; partNo: 742792656; Manufacturer: Würth Elektronik eiSos GmbH; Impedance: 750 Ohm; ComponentLink1Description: Manufacturer; ComponentLink1URL: http://www.we-online.de; Created by: Christin Zierenner; Created Date: May 2009; ComponentLink2Description: Datasheet; ComponentLink2URL: http://www.we-online.de/katalog/media/pdf/742792656.pdf
footprint SMD 0603 (Chip Inductor, 2-Leads, Body 1,6x0,8mm)
pins: 1, 2

## WE-CBF 0603, 742792662
designator L?, comment 1000 Ohm
SMD EMI Suppression Ferrite Beads WE-CBF, Z= 1000 Ohm; partNo: 742792662; Manufacturer: Würth Elektronik eiSos GmbH; ComponentLink1Description: Manufacturer; ComponentLink1URL: http://www.we-online.de; Created by: Christin Zierenner; Created Date: May 2009; Impedance: 1000 Ohm; ComponentLink2Description: Datasheet; ComponentLink2URL: http://www.we-online.de/katalog/media/pdf/742792662.pdf
footprint SMD 0603 (Chip Inductor, 2-Leads, Body 1,6x0,8mm)
pins: 1, 2

## WE-CBF 0603, 742792663
designator L?, comment 1000 Ohm
SMD EMI Suppression Ferrite Beads WE-CBF, Z= 1000 Ohm; partNo: 742792663; Manufacturer: Würth Elektronik eiSos GmbH; Impedance: 1000 Ohm; ComponentLink1Description: Manufacturer; ComponentLink1URL: http://www.we-online.de; Created by: Christin Zierenner; Created Date: May 2009; ComponentLink2Description: Datasheet; ComponentLink2URL: http://www.we-online.de/katalog/media/pdf/742792663.pdf
footprint SMD 0603 (Chip Inductor, 2-Leads, Body 1,6x0,8mm)
pins: 1, 2

## WE-CBF 0603, 742792664
designator L?, comment 1000 Ohm
SMD EMI Suppression Ferrite Beads WE-CBF, Z= 1000 Ohm; partNo: 742792664; Manufacturer: Würth Elektronik eiSos GmbH; Impedance: 1000 Ohm; ComponentLink1Description: Manufacturer; ComponentLink1URL: http://www.we-online.de; Created by: Christin Zierenner; Created Date: May 2009; ComponentLink2Description: Datasheet; ComponentLink2URL: http://www.we-online.de/katalog/media/pdf/742792664.pdf
footprint SMD 0603 (Chip Inductor, 2-Leads, Body 1,6x0,8mm)
pins: 1, 2

## WE-CBF 0603, 742792691
designator L?, comment 1500 Ohm
SMD EMI Suppression Ferrite Beads WE-CBF, Z= 1500 Ohm; partNo: 742792691; Manufacturer: Würth Elektronik eiSos GmbH; Impedance: 1500 Ohm; ComponentLink1Description: Manufacturer; ComponentLink1URL: http://www.we-online.de; Created by: Christin Zierenner; Created Date: May 2009; ComponentLink2Description: Datasheet; ComponentLink2URL: http://www.we-online.de/katalog/media/pdf/742792691.pdf
footprint SMD 0603 (Chip Inductor, 2-Leads, Body 1,6x0,8mm)
pins: 1, 2

## WE-CBF 0603, 742792692
designator L?, comment 1800 Ohm
SMD EMI Suppression Ferrite Beads WE-CBF, Z= 1800 Ohm; partNo: 742792692; Manufacturer: Würth Elektronik eiSos GmbH; Impedance: 1800 Ohm; ComponentLink1Description: Manufacturer; ComponentLink1URL: http://www.we-online.de; Created by: Christin Zierenner; Created Date: May 2009; ComponentLink2Description: Datasheet; ComponentLink2URL: http://www.we-online.de/katalog/media/pdf/742792692.pdf
footprint SMD 0603 (Chip Inductor, 2-Leads, Body 1,6x0,8mm)
pins: 1, 2

## WE-CBF 0603, 742792693
designator L?, comment 2200 Ohm
SMD EMI Suppression Ferrite Beads WE-CBF, Z= 2200 Ohm; partNo: 742792693; Manufacturer: Würth Elektronik eiSos GmbH; Impedance: 2200 Ohm; ComponentLink1Description: Manufacturer; ComponentLink1URL: http://www.we-online.de; Created by: Christin Zierenner; Created Date: May 2009; ComponentLink2Description: Datasheet; ComponentLink2URL: http://www.we-online.de/katalog/media/pdf/742792693.pdf
footprint SMD 0603 (Chip Inductor, 2-Leads, Body 1,6x0,8mm)
pins: 1, 2

## WE-CBF 0603, 742792695
designator L?, comment 2500 Ohm
SMD EMI Suppression Ferrite Beads WE-CBF, Z= 2500 Ohm; partNo: 742792695; Manufacturer: Würth Elektronik eiSos GmbH; Impedance: 2500 Ohm; ComponentLink1Description: Manufacturer; ComponentLink1URL: http://www.we-online.de; Created by: Christin Zierenner; Created Date: May 2009; ComponentLink2Description: Datasheet; ComponentLink2URL: http://www.we-online.de/katalog/media/pdf/742792695.pdf
footprint SMD 0603 (Chip Inductor, 2-Leads, Body 1,6x0,8mm)
pins: 1, 2


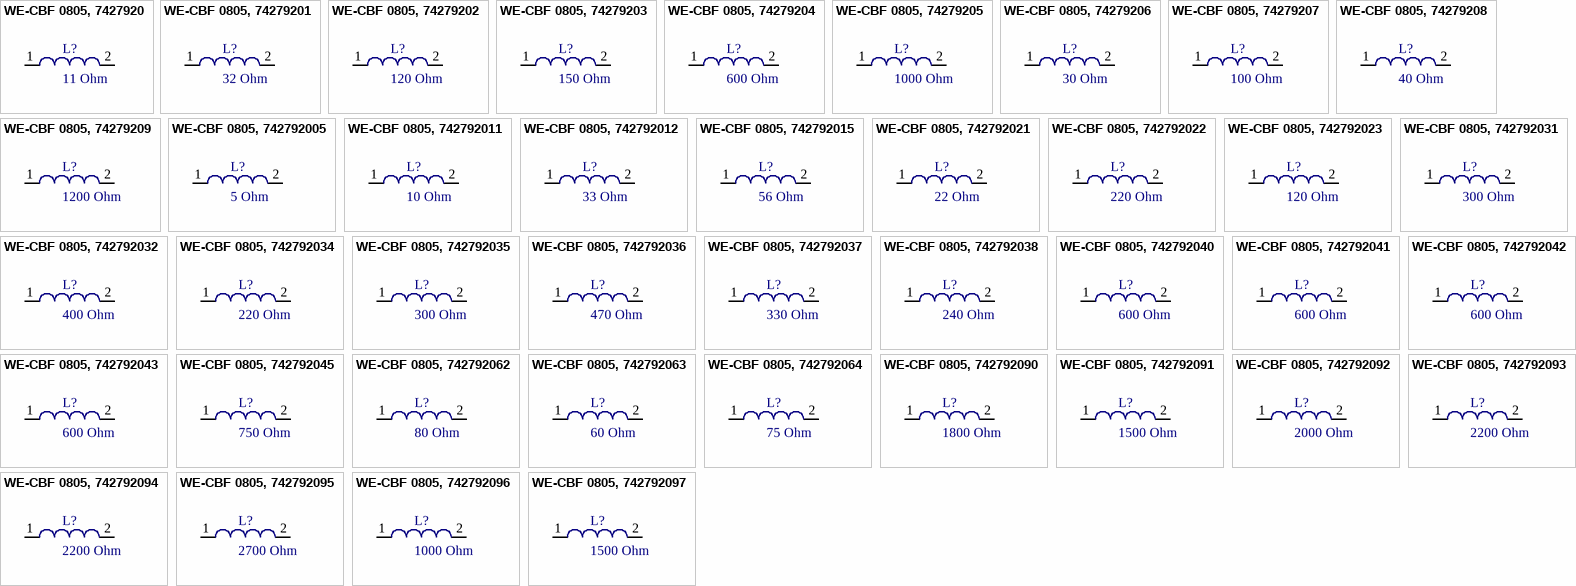
[diagram p2: symbols WE-CBF 0805, 7427920 to WE-CBF 0805, 742792097]

## WE-CBF 0805, 7427920
designator L?, comment 11 Ohm
SMD EMI Suppression Ferrite Beads WE-CBF, Z= 11 Ohm; partNo: 7427920; Manufacturer: Würth Elektronik eiSos GmbH; Impedance: 11 Ohm; ComponentLink1Description: Manufacturer; ComponentLink1URL: http://www.we-online.de; Created by: Christin Zierenner; Created Date: May 2009; ComponentLink2Description: Datasheet; ComponentLink2URL: http://www.we-online.de/katalog/media/pdf/7427920.pdf
footprint SMD 0805 (Chip Inductor, 2-Leads, Body 2,0x1,2mm)
pins: 1, 2

## WE-CBF 0805, 74279201
designator L?, comment 32 Ohm
SMD EMI Suppression Ferrite Beads WE-CBF, Z= 32 Ohm; partNo: 74279201; Manufacturer: Würth Elektronik eiSos GmbH; Impedance: 32 Ohm; ComponentLink1Description: Manufacturer; ComponentLink1URL: http://www.we-online.de; Created by: Christin Zierenner; Created Date: May 2009; ComponentLink2Description: Datasheet; ComponentLink2URL: http://www.we-online.de/katalog/media/pdf/74279201.pdf
footprint SMD 0805 (Chip Inductor, 2-Leads, Body 2,0x1,2mm)
pins: 1, 2

## WE-CBF 0805, 74279202
designator L?, comment 120 Ohm
SMD EMI Suppression Ferrite Beads WE-CBF, Z= 120 Ohm; partNo: 74279202; Manufacturer: Würth Elektronik eiSos GmbH; Impedance: 120 Ohm; ComponentLink1Description: Manufacturer; ComponentLink1URL: http://www.we-online.de; Created by: Christin Zierenner; Created Date: May 2009; ComponentLink2Description: Datasheet; ComponentLink2URL: http://www.we-online.de/katalog/media/pdf/74279202.pdf
footprint SMD 0805 (Chip Inductor, 2-Leads, Body 2,0x1,2mm)
pins: 1, 2

## WE-CBF 0805, 74279203
designator L?, comment 150 Ohm
SMD EMI Suppression Ferrite Beads WE-CBF, Z= 150 Ohm; partNo: 74279203; Manufacturer: Würth Elektronik eiSos GmbH; Impedance: 150 Ohm; ComponentLink1Description: Manufacturer; ComponentLink1URL: http://www.we-online.de; Created by: Christin Zierenner; Created Date: May 2009; ComponentLink2Description: Datasheet; ComponentLink2URL: http://www.we-online.de/katalog/media/pdf/74279203.pdf
footprint SMD 0805 (Chip Inductor, 2-Leads, Body 2,0x1,2mm)
pins: 1, 2

## WE-CBF 0805, 74279204
designator L?, comment 600 Ohm
SMD EMI Suppression Ferrite Beads WE-CBF, Z= 600 Ohm; partNo: 74279204; Manufacturer: Würth Elektronik eiSos GmbH; Impedance: 600 Ohm; ComponentLink1Description: Manufacturer; ComponentLink1URL: http://www.we-online.de; Created by: Christin Zierenner; Created Date: May 2009; ComponentLink2Description: Datasheet; ComponentLink2URL: http://www.we-online.de/katalog/media/pdf/74279204.pdf
footprint SMD 0805 (Chip Inductor, 2-Leads, Body 2,0x1,2mm)
pins: 1, 2

## WE-CBF 0805, 74279205
designator L?, comment 1000 Ohm
SMD EMI Suppression Ferrite Beads WE-CBF, Z= 1000 Ohm; partNo: 74279205; Manufacturer: Würth Elektronik eiSos GmbH; Impedance: 1000 Ohm; ComponentLink1Description: Manufacturer; ComponentLink1URL: http://www.we-online.de; Created by: Christin Zierenner; Created Date: May 2009; ComponentLink2Description: Datasheet; ComponentLink2URL: http://www.we-online.de/katalog/media/pdf/74279205.pdf
footprint SMD 0805 (Chip Inductor, 2-Leads, Body 2,0x1,2mm)
pins: 1, 2

## WE-CBF 0805, 74279206
designator L?, comment 30 Ohm
SMD EMI Suppression Ferrite Beads WE-CBF, Z= 30 Ohm; partNo: 74279206; Manufacturer: Würth Elektronik eiSos GmbH; Impedance: 30 Ohm; ComponentLink1Description: Manufacturer; ComponentLink1URL: http://www.we-online.de; Created by: Christin Zierenner; Created Date: May 2009; ComponentLink2Description: Datasheet; ComponentLink2URL: http://www.we-online.de/katalog/media/pdf/74279206.pdf
footprint SMD 0805 (Chip Inductor, 2-Leads, Body 2,0x1,2mm)
pins: 1, 2

## WE-CBF 0805, 74279207
designator L?, comment 100 Ohm
SMD EMI Suppression Ferrite Beads WE-CBF, Z= 100 Ohm; partNo: 74279207; Manufacturer: Würth Elektronik eiSos GmbH; Impedance: 100 Ohm; ComponentLink1Description: Manufacturer; ComponentLink1URL: http://www.we-online.de; Created by: Christin Zierenner; Created Date: May 2009; ComponentLink2Description: Datasheet; ComponentLink2URL: http://www.we-online.de/katalog/media/pdf/74279207.pdf
footprint SMD 0805 (Chip Inductor, 2-Leads, Body 2,0x1,2mm)
pins: 1, 2

## WE-CBF 0805, 74279208
designator L?, comment 40 Ohm
SMD EMI Suppression Ferrite Beads WE-CBF, Z= 40 Ohm; partNo: 74279208; Manufacturer: Würth Elektronik eiSos GmbH; Impedance: 40 Ohm; ComponentLink1Description: Manufacturer; ComponentLink1URL: http://www.we-online.de; Created by: Christin Zierenner; Created Date: May 2009; ComponentLink2Description: Datasheet; ComponentLink2URL: http://www.we-online.de/katalog/media/pdf/74279208.pdf
footprint SMD 0805 (Chip Inductor, 2-Leads, Body 2,0x1,2mm)
pins: 1, 2

## WE-CBF 0805, 74279209
designator L?, comment 1200 Ohm
SMD EMI Suppression Ferrite Beads WE-CBF, Z= 1200 Ohm; partNo: 74279209; Manufacturer: Würth Elektronik eiSos GmbH; Impedance: 1200 Ohm; ComponentLink1Description: Manufacturer; ComponentLink1URL: http://www.we-online.de; Created by: Christin Zierenner; Created Date: May 2009; ComponentLink2Description: Datasheet; ComponentLink2URL: http://www.we-online.de/katalog/media/pdf/74279209.pdf
footprint SMD 0805 (Chip Inductor, 2-Leads, Body 2,0x1,2mm)
pins: 1, 2

## WE-CBF 0805, 742792005
designator L?, comment 5 Ohm
SMD EMI Suppression Ferrite Beads WE-CBF, Z= 5 Ohm; partNo: 742792005; Manufacturer: Würth Elektronik eiSos GmbH; Impedance: 5 Ohm; ComponentLink1Description: Manufacturer; ComponentLink1URL: http://www.we-online.de; Created by: Christin Zierenner; Created Date: May 2009; ComponentLink2Description: Datasheet; ComponentLink2URL: http://www.we-online.de/katalog/media/pdf/742792005.pdf
footprint SMD 0805 (Chip Inductor, 2-Leads, Body 2,0x1,2mm)
pins: 1, 2

## WE-CBF 0805, 742792011
designator L?, comment 10 Ohm
SMD EMI Suppression Ferrite Beads WE-CBF, Z= 10 Ohm; partNo: 742792011; Manufacturer: Würth Elektronik eiSos GmbH; Impedance: 10 Ohm; ComponentLink1Description: Manufacturer; ComponentLink1URL: http://www.we-online.de; Created by: Christin Zierenner; Created Date: May 2009; ComponentLink2Description: Datasheet; ComponentLink2URL: http://www.we-online.de/katalog/media/pdf/742792011.pdf
footprint SMD 0805 (Chip Inductor, 2-Leads, Body 2,0x1,2mm)
pins: 1, 2

## WE-CBF 0805, 742792012
designator L?, comment 33 Ohm
SMD EMI Suppression Ferrite Beads WE-CBF, Z= 33 Ohm; partNo: 742792012; Manufacturer: Würth Elektronik eiSos GmbH; Impedance: 33 Ohm; ComponentLink1Description: Manufacturer; ComponentLink1URL: http://www.we-online.de; Created by: Christin Zierenner; Created Date: May 2009; ComponentLink2Description: Datasheet; ComponentLink2URL: http://www.we-online.de/katalog/media/pdf/742792012.pdf
footprint SMD 0805 (Chip Inductor, 2-Leads, Body 2,0x1,2mm)
pins: 1, 2

## WE-CBF 0805, 742792015
designator L?, comment 56 Ohm
SMD EMI Suppression Ferrite Beads WE-CBF, Z= 56 Ohm; partNo: 742792015; Manufacturer: Würth Elektronik eiSos GmbH; Impedance: 56 Ohm; ComponentLink1Description: Manufacturer; ComponentLink1URL: http://www.we-online.de; Created by: Christin Zierenner; Created Date: June 2010; ComponentLink2Description: Datasheet; ComponentLink2URL: http://www.we-online.de/katalog/media/pdf/742792015.pdf
footprint SMD 0805 (Chip Inductor, 2-Leads, Body 2,0x1,2mm,)
pins: 1, 2

## WE-CBF 0805, 742792021
designator L?, comment 22 Ohm
SMD EMI Suppression Ferrite Beads WE-CBF, Z= 21 Ohm; partNo: 742792021; Manufacturer: Würth Elektronik eiSos GmbH; Impedance: 22 Ohm; ComponentLink1Description: Manufacturer; ComponentLink1URL: http://www.we-online.de; Created by: Christin Zierenner; Created Date: May 2009; ComponentLink2Description: Datasheet; ComponentLink2URL: http://www.we-online.de/katalog/media/pdf/742792021.pdf
footprint SMD 0805 (Chip Inductor, 2-Leads, Body 2,0x1,2mm)
pins: 1, 2

## WE-CBF 0805, 742792022
designator L?, comment 220 Ohm
SMD EMI Suppression Ferrite Beads WE-CBF, Z= 220 Ohm; partNo: 742792022; Manufacturer: Würth Elektronik eiSos GmbH; Impedance: 220 Ohm; ComponentLink1Description: Manufacturer; ComponentLink1URL: http://www.we-online.de; Created by: Christin Zierenner; Created Date: May 2009; ComponentLink2Description: Datasheet; ComponentLink2URL: http://www.we-online.de/katalog/media/pdf/742792022.pdf
footprint SMD 0805 (Chip Inductor, 2-Leads, Body 2,0x1,2mm)
pins: 1, 2

## WE-CBF 0805, 742792023
designator L?, comment 120 Ohm
SMD EMI Suppression Ferrite Beads WE-CBF, Z= 120 Ohm; partNo: 742792023; Manufacturer: Würth Elektronik eiSos GmbH; Impedance: 120 Ohm; ComponentLink1Description: Manufacturer; ComponentLink1URL: http://www.we-online.de; Created by: Christin Zierenner; Created Date: May 2009; ComponentLink2Description: Datasheet; ComponentLink2URL: http://www.we-online.de/katalog/media/pdf/742792023.pdf
footprint SMD 0805 (Chip Inductor, 2-Leads, Body 2,0x1,2mm)
pins: 1, 2

## WE-CBF 0805, 742792031
designator L?, comment 300 Ohm
SMD EMI Suppression Ferrite Beads WE-CBF, Z= 300 Ohm; partNo: 742792031; Manufacturer: Würth Elektronik eiSos GmbH; Impedance: 300 Ohm; ComponentLink1Description: Manufacturer; ComponentLink1URL: http://www.we-online.de; Created by: Christin Zierenner; Created Date: May 2009; ComponentLink2Description: Datasheet; ComponentLink2URL: http://www.we-online.de/katalog/media/pdf/742792031.pdf
footprint SMD 0805 (Chip Inductor, 2-Leads, Body 2,0x1,2mm)
pins: 1, 2

## WE-CBF 0805, 742792032
designator L?, comment 400 Ohm
SMD EMI Suppression Ferrite Beads WE-CBF, Z= 400 Ohm; partNo: 742792032; Manufacturer: Würth Elektronik eiSos GmbH; Impedance: 400 Ohm; ComponentLink1Description: Manufacturer; ComponentLink1URL: http://www.we-online.de; Created by: Christin Zierenner; Created Date: May 2009; ComponentLink2Description: Datasheet; ComponentLink2URL: http://www.we-online.de/katalog/media/pdf/742792032.pdf
footprint SMD 0805 (Chip Inductor, 2-Leads, Body 2,0x1,2mm)
pins: 1, 2

## WE-CBF 0805, 742792034
designator L?, comment 220 Ohm
SMD EMI Suppression Ferrite Beads WE-CBF, Z= 220 Ohm; partNo: 742792034; Manufacturer: Würth Elektronik eiSos GmbH; Impedance: 220 Ohm; ComponentLink1Description: Manufacturer; ComponentLink1URL: http://www.we-online.de; Created by: Christin Zierenner; Created Date: May 2009; ComponentLink2Description: Datasheet; ComponentLink2URL: http://www.we-online.de/katalog/media/pdf/742792034.pdf
footprint SMD 0805 (Chip Inductor, 2-Leads, Body 2,0x1,2mm)
pins: 1, 2

## WE-CBF 0805, 742792035
designator L?, comment 300 Ohm
SMD EMI Suppression Ferrite Beads WE-CBF, Z= 300 Ohm; partNo: 742792035; Manufacturer: Würth Elektronik eiSos GmbH; Impedance: 300 Ohm; ComponentLink1Description: Manufacturer; ComponentLink1URL: http://www.we-online.de; Created by: Christin Zierenner; Created Date: May 2009; ComponentLink2Description: Datasheet; ComponentLink2URL: http://www.we-online.de/katalog/media/pdf/742792035.pdf
footprint SMD 0805 (Chip Inductor, 2-Leads, Body 2,0x1,2mm)
pins: 1, 2

## WE-CBF 0805, 742792036
designator L?, comment 470 Ohm
SMD EMI Suppression Ferrite Beads WE-CBF, Z= 470 Ohm; partNo: 742792036; Manufacturer: Würth Elektronik eiSos GmbH; Impedance: 470 Ohm; ComponentLink1Description: Manufacturer; ComponentLink1URL: http://www.we-online.de; Created by: Christin Zierenner; Created Date: May 2009; ComponentLink2Description: Datasheet; ComponentLink2URL: http://www.we-online.de/katalog/media/pdf/742792036.pdf
footprint SMD 0805 (Chip Inductor, 2-Leads, Body 2,0x1,2mm)
pins: 1, 2

## WE-CBF 0805, 742792037
designator L?, comment 330 Ohm
SMD EMI Suppression Ferrite Beads WE-CBF, Z= 330 Ohm; partNo: 742792037; Manufacturer: Würth Elektronik eiSos GmbH; Impedance: 330 Ohm; ComponentLink1Description: Manufacturer; ComponentLink1URL: http://www.we-online.de; Created by: Christin Zierenner; Created Date: May 2009; ComponentLink2Description: Datasheet; ComponentLink2URL: http://www.we-online.de/katalog/media/pdf/742792037.pdf
footprint SMD 0805 (Chip Inductor, 2-Leads, Body 2,0x1,2mm)
pins: 1, 2